# Altium footprint library 452005691#NIBP涡轮驱动板V2.00.PcbLib: 73 footprints (part 2 of 5)
Each footprint in its own frame and in the unit in brackets; x right, y up, seen from the top. Pads: shape width x height; smd on the part's side, far side on the other; paste and mask are expansions set on the pad; w line width, h text height; cw(c..) or ccw(c..) is an arc to the next point about the centre after c.
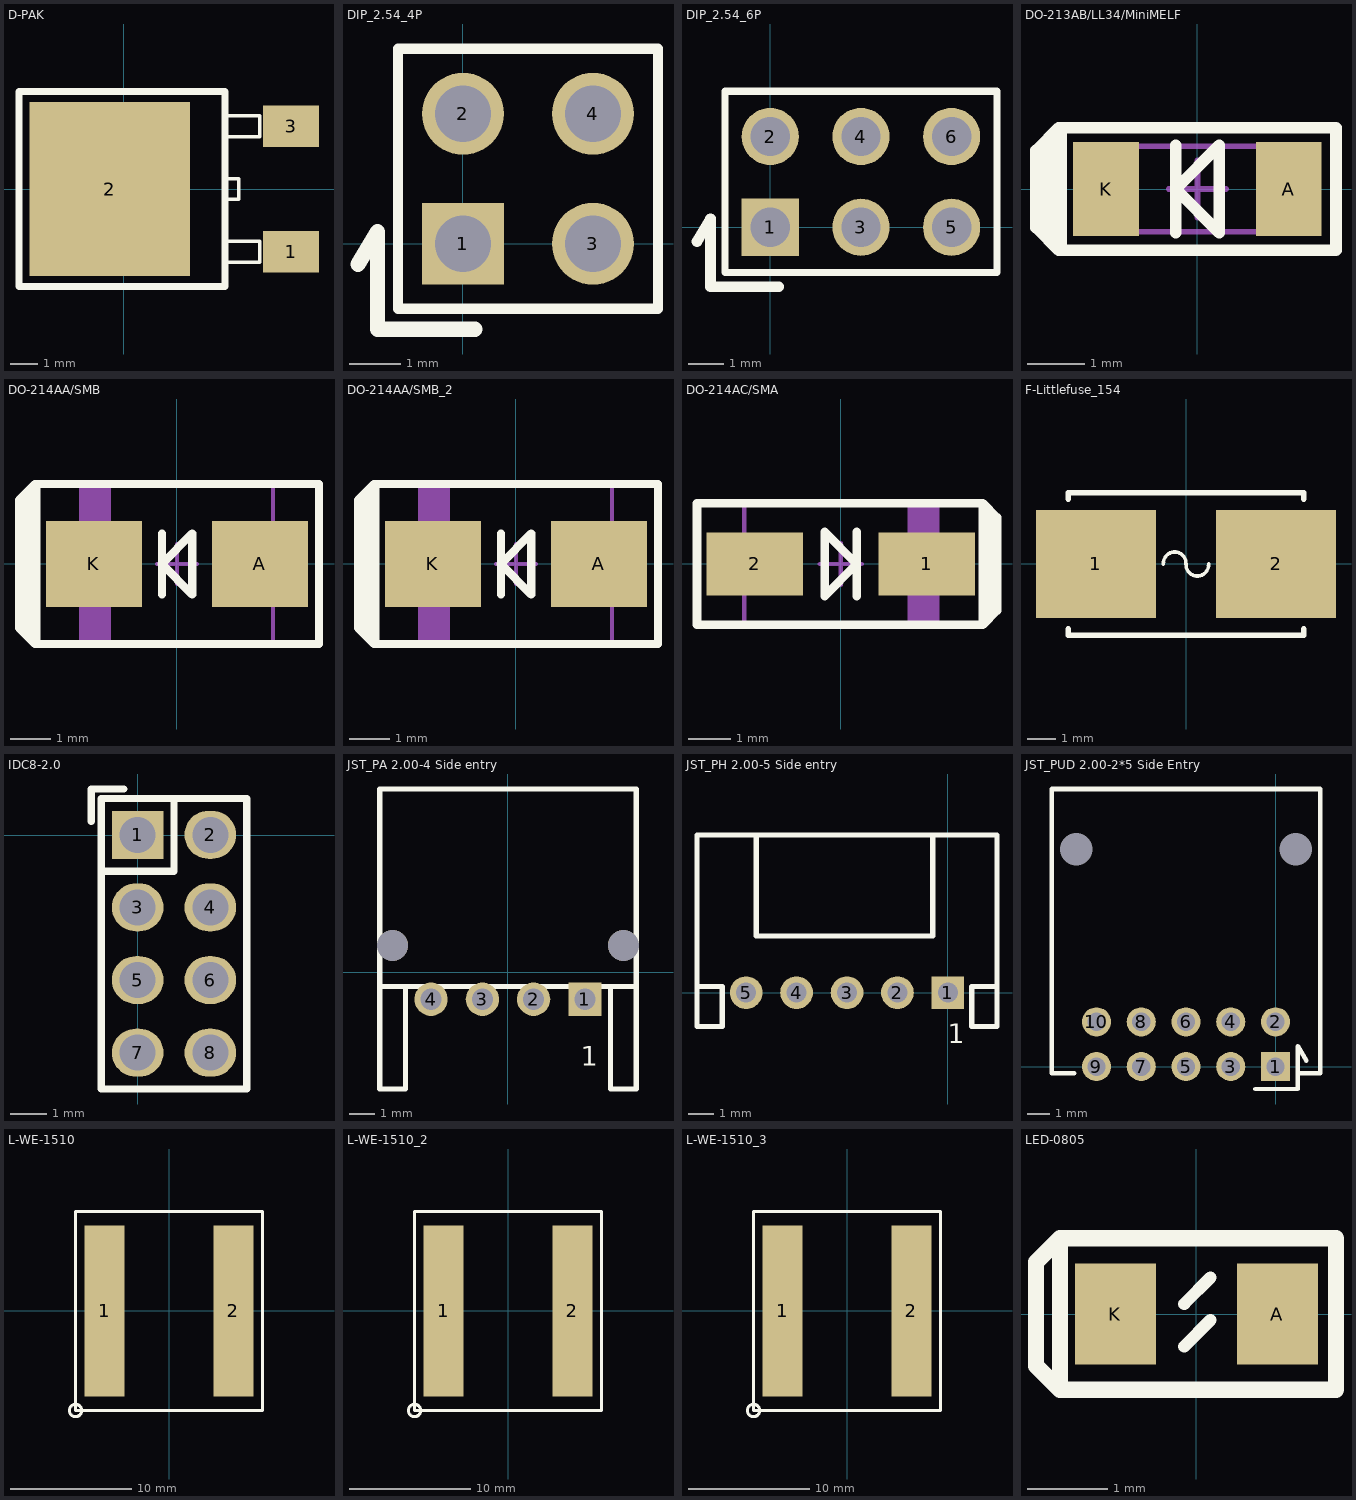
[diagram p1: the footprints below, top view; thin cyan lines are the x and y axes]

## D-PAK [mil] "TO-252AA"
pads (3):
  rect 80x60 smd: 1(240,-90) 3(240,90)
  rect 230x250 smd: 2(-20,0)
Top Overlay:
  lines w5: 145,-105 195,-105 195,-75 145,-75 ; 145,-15 165,-15 165,15 145,15 ; 145,75 195,75 195,105 145,105
  lines w10: -150,-140 145,-140 145,140 -150,140 -150,-140

## DIP_2.54_4P [mm]
pads (4):
  rect 1.6x1.6 hole 1.1: 1(0,0)
  round 1.6 hole 1.1: 2(0,2.54) 3(2.54,0) 4(2.54,2.54)
Top Overlay:
  lines w0.203: -1.27,-1.27 3.81,-1.27 3.81,3.81 -1.27,3.81 -1.27,-1.27
  lines w0.3: -2.051,-0.4 -1.67,0.235 -1.67,-1.67 0.235,-1.67
3D body "1001-2.STEP": height 8.54, standoff -3, extent -1.27,1.27 3.81,3.81
3D body "1001-2.STEP": height 8.54, standoff -3, extent -1.27,-1.27 3.81,1.27

## DIP_2.54_6P [mm]
pads (6):
  rect 1.6x1.6 hole 1.1: 1(0,0)
  round 1.6 hole 1.1: 2(0,2.54) 3(2.54,0) 4(2.54,2.54) 5(5.08,0) 6(5.08,2.54)
Top Overlay:
  lines w0.203: -1.27,-1.27 -1.27,3.81 6.35,3.81 6.35,-1.27 -1.27,-1.27
  lines w0.3: -2.051,-0.4 -1.67,0.235 -1.67,-1.67 0.235,-1.67

## DO-213AB/LL34/MiniMELF [mm] "MELF Diode, 2-Leads, Body 3.40x1.45mm, IPC Medium Density"
height 1.5
pads (2):
  rect 1.15x1.65 smd: A(1.6,0) K(-1.6,0)
Top Overlay:
  region: -2.385,1.075 -2.785,0.675 -2.825,0.675 -2.825,-0.675 -2.425,-1.075 -2.385,-1.075
  lines w0.203: -0.38,-0.765 -0.38,0.765 ; -2.385,-1.075 -2.425,-1.075 -2.825,-0.675 -2.825,0.675 -2.425,1.075 -2.385,1.075 ; -2.385,-1.075 2.425,-1.075 2.425,1.075 -2.385,1.075 ; -2.385,-1.075 -2.385,1.075 ; -0.38,0 0.38,-0.765 0.38,0.765 -0.38,0
Mechanical 13:
  rectangle: -1.755,-0.75 -1.255,0.747
  lines w0.1: -1.755,-0.75 1.755,-0.75 1.755,0.75 -1.755,0.75 -1.755,-0.75
Mechanical 15:
  lines w0.1: -0.5,0 0.5,0 ; 0,-0.5 0,0.5
3D body: height 1.5, standoff 0, extent 1.255,-0.751 1.755,0.749
3D body: height 1.49, standoff 0.04, extent -1.255,-0.721 1.255,0.719
3D body: height 1.49, standoff 0.04, extent -0.655,-0.722 -0.055,0.72
3D body: height 1.5, standoff 0, extent -1.755,-0.751 -1.255,0.749

## DO-214AA/SMB [mm] "Molded Diode, 2-Leads, Body 5.34x3.62mm, IPC Medium Density"
height 2.62
pads (2):
  rect 2.4x2.15 smd: A(2.075,0) K(-2.075,0)
Top Overlay:
  region: -3.51,2 -3.91,1.6 -3.95,1.6 -3.95,-1.6 -3.55,-2 -3.51,-2
  lines w0.203: -0.375,-0.765 -0.375,0.765 ; -3.51,-2 -3.55,-2 -3.95,-1.6 -3.95,1.6 -3.55,2 -3.51,2 ; -3.51,-2 -3.51,2 ; -3.51,-2 3.55,-2 3.55,2 -3.51,2 ; -0.38,0 0.38,0.765 0.38,-0.765 -0.38,0
Mechanical 13:
  rectangle: -2.4,-1.97 -1.648,1.97
  lines w0.1: -2.4,-1.97 -2.4,1.97 2.4,1.97 2.4,-1.97 -2.4,-1.97
Mechanical 15:
  lines w0.1: -0.5,0 0.5,0 ; 0,-0.5 0,0.5
3D body: height 2.62, standoff 0, extent -2.4,-1.97 2.4,1.97

## DO-214AA/SMB_2 [mm]
pads (2):
  rect 2.4x2.15 smd: A(2.075,0) K(-2.075,0)
Top Overlay:
  region: -3.51,2 -3.91,1.6 -3.95,1.6 -3.95,-1.6 -3.55,-2 -3.51,-2
  lines w0.203: -0.375,-0.765 -0.375,0.765 ; -3.51,-2 3.55,-2 3.55,2 -3.51,2 ; -3.51,-2 -3.51,2 ; -3.51,-2 -3.55,-2 -3.95,-1.6 -3.95,1.6 -3.55,2 -3.51,2 ; -0.38,0 0.38,-0.765 0.38,0.765 -0.38,0
Mechanical 13:
  rectangle: -2.4,-1.97 -1.648,1.97
  lines w0.1: -2.4,-1.97 2.4,-1.97 2.4,1.97 -2.4,1.97 -2.4,-1.97
Mechanical 15:
  lines w0.1: -0.5,0 0.5,0 ; 0,-0.5 0,0.5
3D body: height 2.62, standoff 0, extent -2.4,-1.97 2.4,1.97

## DO-214AC/SMA [mm] "Molded Diode, 2-Leads, Body 4.33x2.56mm, IPC Medium Density"
height 2
pads (2):
  rect 2.3x1.5 smd: 1(2.05,0) 2(-2.05,0)
Top Overlay:
  region: 3.385,-1.45 3.725,-1.11 3.725,1.05 3.385,1.39
  lines w0.203: 0.38,-0.765 0.38,0.765 ; 3.725,-1.11 3.385,-1.45 ; 3.725,-1.05 3.725,1.05 3.725,1.11 3.385,1.45 ; 3.385,-1.45 3.385,1.45 ; 3.385,-1.45 -3.425,-1.45 -3.425,1.45 3.385,1.45 ; -0.38,-0.765 0.38,0 -0.38,0.765 -0.38,-0.765
Mechanical 13:
  region: 2.304,1.448 1.587,1.448 1.587,-1.45 2.304,-1.45
  lines w0.1: -2.3,-1.45 -2.3,1.45 2.3,1.45 2.3,-1.45 -2.3,-1.45
Mechanical 15:
  lines w0.1: -0.5,0 0.5,0 ; 0,-0.5 0,0.5
3D body: height 2, standoff 0, extent -2.3,-1.45 2.3,1.45

## F-Littlefuse_154 [mm]
height 1.6
pads (2):
  rect 4.24x3.81 smd: 1(-3.185,0) 2(3.185,0)
Top Overlay:
  lines w0.127: -0.799,0 cw(c-0.399,0.024) 0,0 ccw(c0.399,-0.024) 0.799,0
  lines w0.203: -4.166,-2.3 -4.166,-2.516 4.166,-2.516 4.166,-2.3 ; -4.166,2.3 -4.166,2.516 4.166,2.516 4.166,2.3

## IDC8-2.0 [mil]
height 162.99
pads (8):
  rect 56x52 hole 39: 1(0.15,0.38)
  oval 56x52 hole 39: 2(78.89,0.38) 3(0.15,-78.36) 4(78.89,-78.36) 5(0.15,-157.1) 6(78.89,-157.1) 7(0.15,-235.84) 8(78.89,-235.84)
Top Overlay:
  lines w8: -50,15 -50,50 -15,50 ; -39.22,-38.99 39.52,-38.99 39.52,39.75 ; -39.22,-275.21 -39.22,39.75 118.26,39.75 118.26,-275.21 -39.22,-275.21

## JST_PA 2.00-4 Side entry [mm]
pads (6):
  rect 1.3x1.3 hole 0.82: 1(3,-1.05)
  round 1.3 hole 0.82: 2(1,-1.05) 3(-1,-1.05) 4(-3,-1.05)
  round 1.2 hole 1.2: ""(-4.5,1.05) ""(4.5,1.05)
Top Overlay:
  lines w0.2: -5,-4.45 -5,1.306 ; -4.993,-0.55 -3,-0.55 4.974,-0.55 ; -4,-0.571 -4,-4.55 -5,-4.55 -5,7.147 -3.087,7.147 ; -3,7.15 5,7.15 5,-4.55 4,-4.55 4,-0.571 ; 5,-4.451 5,1.306
  text "1" at 2.846,-3.634 h0.76

## JST_PH 2.00-5 Side entry [mm]
pads (5):
  rect 1.3x1.3 hole 0.8: 1(0,0)
  round 1.3 hole 0.8: 2(-2,0) 3(-4,0) 4(-6,0) 5(-8,0)
Top Overlay:
  lines w0.2: -7.6,5.788 -7.6,6.256 ; -0.6,5.782 -0.6,6.25
  lines w0.203: -7.95,6.25 -5.6,6.25 -5.6,6.256 ; -5.95,6.25 -3.6,6.25 -3.6,6.256 ; -3.95,6.25 1.95,6.25 1.95,0.25 ; -1.6,2.25 -0.6,2.25 ; -0.6,6.25 -0.6,2.25 ; -9.95,0.25 -9.95,6.25 -7.6,6.25 -7.6,6.256 -7.6,2.25 -0.6,2.25 ; -9.95,0.25 -9.95,-1.35 -8.95,-1.35 -8.95,0.25 -9.95,0.25 ; 1.95,0.25 0.95,0.25 0.95,-1.35 1.95,-1.35 1.95,0.25
  text "1" at 0,-2 h0.76

## JST_PUD 2.00-2*5 Side Entry [mm]
pads (12):
  rect 1.3x1.3 hole 0.82: 1(0,0)
  round 1.3 hole 0.82: 2(0,2) 3(-2,0) 4(-2,2) 5(-4,0) 6(-4,2) 7(-6,0) 8(-6,2) 9(-8,0) 10(-8,2)
  round 1.3 hole 1.45: ""(-8.9,9.7) ""(0.9,9.7)
Top Overlay:
  lines w0.2: -0.905,-1 1,-1 1,0.905 1.381,0.27
  lines w0.203: -9,-0.3 -10,-0.3 -10,12.4 2,12.4 2,-0.3 1,-0.3

## L-WE-1510 [mm]
pads (2):
  rect 3.3x14.1 smd: 1(-5.3,0) 2(5.3,0)
Top Overlay:
  circle w0.254: c-7.7,-8.2 r0.51
  lines w0.254: -7.7,-8.2 7.7,-8.2 7.7,8.2 -7.7,8.2 -7.7,-8.2
Mechanical 13:
  lines w0.254: -7.7,-8.2 7.7,-8.2 7.7,8.2 -7.7,8.2 -7.7,-8.2
3D body: height 11, standoff 1, extent -7.7,-8.2 7.7,8.2

## L-WE-1510_2 [mm]
pads (2):
  rect 3.3x14.1 smd: 1(-5.3,0) 2(5.3,0)
Top Overlay:
  circle w0.254: c-7.7,-8.2 r0.51
  lines w0.254: -7.7,-8.2 7.7,-8.2 7.7,8.2 -7.7,8.2 -7.7,-8.2
Mechanical 13:
  lines w0.254: -7.7,-8.2 7.7,-8.2 7.7,8.2 -7.7,8.2 -7.7,-8.2
3D body: height 11, standoff 1, extent -7.7,-8.2 7.7,8.2

## L-WE-1510_3 [mm]
pads (2):
  rect 3.3x14.1 smd: 1(-5.3,0) 2(5.3,0)
Top Overlay:
  circle w0.254: c-7.7,-8.2 r0.51
  lines w0.254: -7.7,-8.2 7.7,-8.2 7.7,8.2 -7.7,8.2 -7.7,-8.2
Mechanical 13:
  lines w0.254: -7.7,-8.2 7.7,-8.2 7.7,8.2 -7.7,8.2 -7.7,-8.2
3D body: height 11, standoff 1, extent -7.7,-8.2 7.7,8.2

## LED-0805 [mil] "Molded Diode, 2-Leads, Body 1.20x0.80mm, IPC Medium Density"
height 27.56
pads (2):
  rect 40x50 smd: A(40,0) K(-40,0)
Top Overlay:
  lines w6: -6,-16 7,-3 ; -6,5 7,18
  lines w8: -67.32,-37.4 -79.13,-25.59 -79.13,25.59 -67.32,37.4 ; -67.32,-37.4 -67.32,37.4 ; -67.32,-37.4 68.9,-37.4 68.9,37.4 -67.32,37.4